# Altium schematic symbol library MICRON-MT28F640J3FS-115M.schlib: 1 symbol
Pins are listed as number, name and electrical type; pins without a type are passive.

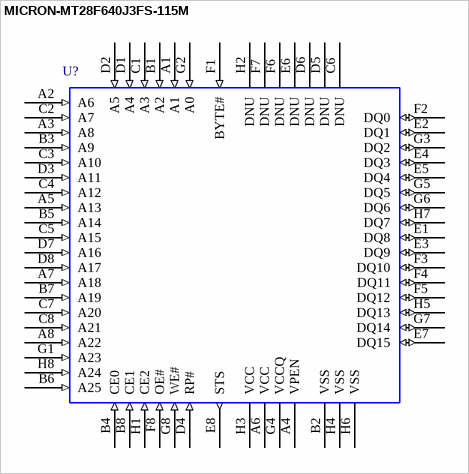
[diagram p0: symbol MICRON-MT28F640J3FS-115M]

## MICRON-MT28F640J3FS-115M
designator U?  (value not drawn)
128Mb  64Mb  32Mb Q-FLASH MEMORY; CircuitryPartsPN: MICRON-MT28F640J3FS-115M; ManufacturerPN: MT28F640J3FS-115M; Manufacturer: Micron Technology Inc; CategoryI: Integrated Circuits (ICs); CategoryII: NOR FLASH MEMORY; SchematicRev: A; DesignedBy: Circuitry Parts; MfgURL: http://www.micron.com/; PackageName: FBGA64; FootprintName: *; Value: *; DesignedOn: 7/18/2005 3:14:34 PM
pins: A1 (in), A2 A6 (in), A3 A8 (in), A4 VPEN (power), A5 A13 (in), A6 VCC (power), A7 A18 (in), A8 A22 (in), B1 A2 (in), B2 VSS (power), B3 A9 (in), B4 CE0 (in), B5 A14 (in), B6 A25 (in), B7 A19 (in), B8 CE1 (in), C1 A3 (in), C2 A7 (in), C3 A10 (in), C4 A12 (in), C5 A15 (in), C6 DNU, C7 A20 (in), C8 A21 (in), D1 A4 (in), D2 A5 (in), D3 A11 (in), D4 RP# (in), D5 DNU, D6 DNU, D7 A16 (in), D8 A17 (in), E1 DQ8 (io), E2 DQ1 (io), E3 DQ9 (io), E4 DQ3 (io), E5 DQ4 (io), E6 DNU, E7 DQ15 (io), E8 STS (out), F1 BYTE# (in), F2 DQ0 (io), F3 DQ10 (io), F4 DQ11 (io), F5 DQ12 (io), F6 DNU, F7 DNU, F8 OE# (in), G1 A23 (in), G2 A0 (in), G3 DQ2 (io), G4 VCCQ (power), G5 DQ5 (io), G6 DQ6 (io), G7 DQ14 (io), G8 WE# (in), H1 CE2 (in), H2 DNU, H3 VCC (power), H4 VSS (power), H5 DQ13 (io), H6 VSS (power), H7 DQ7 (io), H8 A24 (in)